# EAGLE library part VCNL4010 (library ICs)
Integrated ambient, IR sensor. I2C.
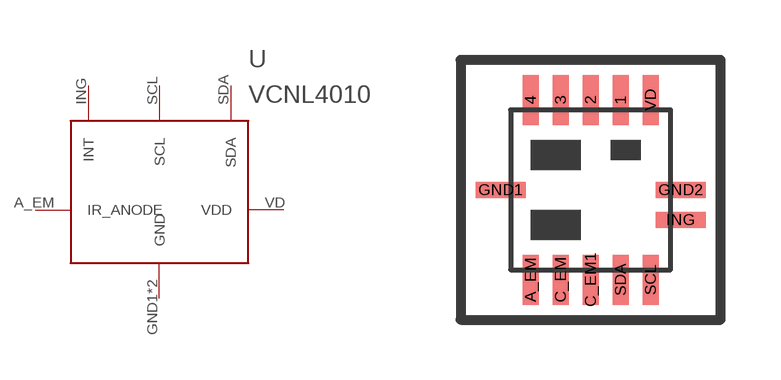
[diagram p28: symbol with the pads of VCNL4010; footprint VCNL4010]

Designator prefix U

## VCNL4010-GS08 (FARNELL: 2078722)  [VCNL4010]
A_EM  IR_ANODE
GND1  GND
GND2  GND
ING  INT
SCL  SCL
SDA  SDA
VD  VDD

## Footprint VCNL4010 (pad centres in mm)
smd 0.4 x 1.25: 1 0.75,2.25; 2 0,2.25; 3 -0.75,2.25; 4 -1.5,2.25; A_EM -1.5,-2.25; C_EM -0.75,-2.25; C_EM1 0,-2.25; SCL 1.5,-2.25; SDA 0.75,-2.25; VD 1.5,2.25
smd 1.25 x 0.4: GND1 -2.25,0; GND2 2.25,0; ING 2.25,-0.75